# EAGLE library part CA3306 (library ic)
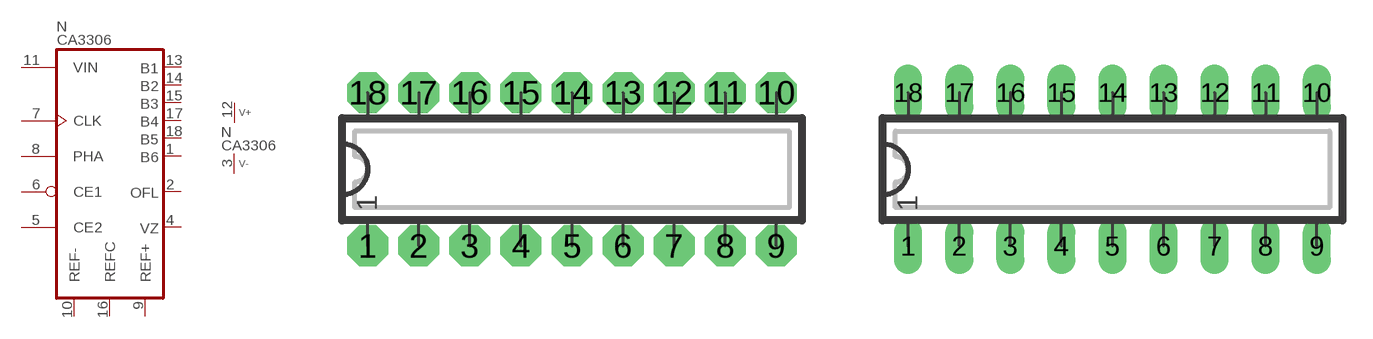
[diagram p12: symbol with the pads of DIP18N; footprints DIP18N, DIP18L]

Designator prefix N; gates  =CA3306 P=V+-

## CA3306N  [DIP18N]
1   :B6  out
2   :OFL  out
3  P:V-  pwr
4   :VZ
5   :CE2  in
6   :CE1  in
7   :CLK  in
8   :PHA  in
9   :REF+  in
10   :REF-  in
11   :VIN  in
12  P:V+  pwr
13   :B1  out
14   :B2  out
15   :B3  out
16   :REFC  in
17   :B4  out
18   :B5  out

## CA3306  [DIP18L]
Pads as for DIP18N

## CA3306L  [DIP18L]
Pads as for DIP18N

## CA3306R  [DIP18R]
Pads as for DIP18N

## Footprint DIP18N (pad centres in mm)
DIP-18 Standard IC package, 18 pins
drill 0.813 pad 2.032 octagon: 1 -10.16,-3.81; 2 -7.62,-3.81; 3 -5.08,-3.81; 4 -2.54,-3.81; 5 0,-3.81; 6 2.54,-3.81; 7 5.08,-3.81; 8 7.62,-3.81; 9 10.16,-3.81; 10 10.16,3.81; 11 7.62,3.81; 12 5.08,3.81; 13 2.54,3.81; 14 0,3.81; 15 -2.54,3.81; 16 -5.08,3.81; 17 -7.62,3.81; 18 -10.16,3.81

## Footprint DIP18L (pad centres in mm)
DIP-18, long pads Standard IC package, 18 pins
drill 0.813 pad 1.397 long: 1 -10.16,-3.81; 2 -7.62,-3.81; 3 -5.08,-3.81; 4 -2.54,-3.81; 5 0,-3.81; 6 2.54,-3.81; 7 5.08,-3.81; 8 7.62,-3.81; 9 10.16,-3.81; 10 10.16,3.81; 11 7.62,3.81; 12 5.08,3.81; 13 2.54,3.81; 14 0,3.81; 15 -2.54,3.81; 16 -5.08,3.81; 17 -7.62,3.81; 18 -10.16,3.81

## Footprint DIP18R (pad centres in mm)
DIP-18, reduced pads Standard IC package, 18 pins
drill 0.813 pad 1.397 square: 1 -10.16,-3.81; 2 -7.62,-3.81; 3 -5.08,-3.81; 4 -2.54,-3.81; 5 0,-3.81; 6 2.54,-3.81; 7 5.08,-3.81; 8 7.62,-3.81; 9 10.16,-3.81; 10 10.16,3.81; 11 7.62,3.81; 12 5.08,3.81; 13 2.54,3.81; 14 0,3.81; 15 -2.54,3.81; 16 -5.08,3.81; 17 -7.62,3.81; 18 -10.16,3.81